# Altium footprint library SOD-123.PcbLib: 1 footprints
Each footprint in its own frame and in the unit in brackets; x right, y up, seen from the top. Pads: shape width x height; smd on the part's side, far side on the other; paste and mask are expansions set on the pad; w line width, h text height; cw(c..) or ccw(c..) is an arc to the next point about the centre after c.
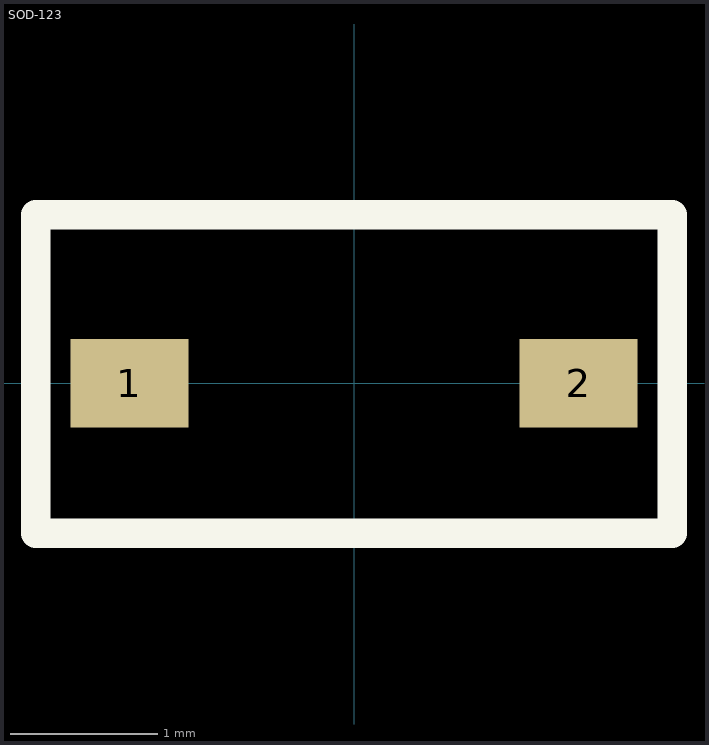
[diagram p0: the footprint, top view; thin cyan lines are the x and y axes]

## SOD-123 [mm]
pads (2):
  rect 0.8x0.6 smd: 1(-1.524,0) 2(1.524,0)
Top Overlay:
  lines w0.2: -2.159,-1.016 -2.159,1.143 2.159,1.143 2.159,-1.016 -2.159,-1.016
3D body: height 0.8, standoff 0, extent -1.27,-0.825 1.27,0.826